# EAGLE library part LT137P (library linear-technology)
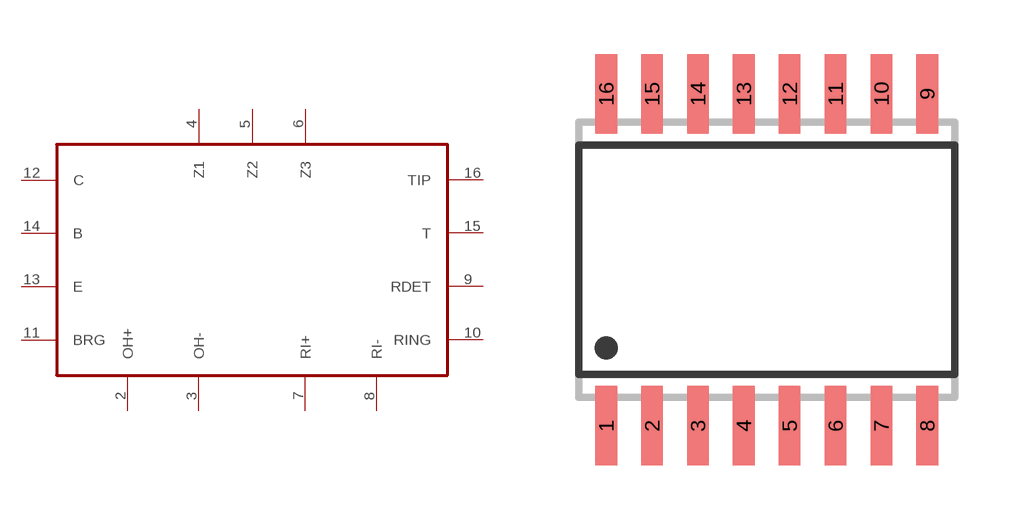
[diagram p11: symbol with the pads of SO16W; footprint SO16W]

Designator prefix U

## LT137P  [SO16W]
2  OH+
3  OH-
4  Z1
5  Z2
6  Z3
7  RI+
8  RI-
9  RDET
10  RING
11  BRG  pwr
12  C  pwr
13  E  pwr
14  B  pwr
15  T
16  TIP

## Footprint SO16W (pad centres in mm)
SMALL OUTLINE INTEGRATED CIRCUIT wide body 7.5 mm/JEDEC MS-013AA
smd 0.6 x 2.2: 1 -4.445,-4.6; 2 -3.175,-4.6; 3 -1.905,-4.6; 4 -0.635,-4.6; 5 0.635,-4.6; 6 1.905,-4.6; 7 3.175,-4.6; 8 4.445,-4.6; 9 4.445,4.6; 10 3.175,4.6; 11 1.905,4.6; 12 0.635,4.6; 13 -0.635,4.6; 14 -1.905,4.6; 15 -3.175,4.6; 16 -4.445,4.6